# Altium schematic symbol library 453-00117_Sona IF573_SCH_Symbol_Altium.SchLib: 1 symbol
Pins are listed as number, name and electrical type; pins without a type are passive.

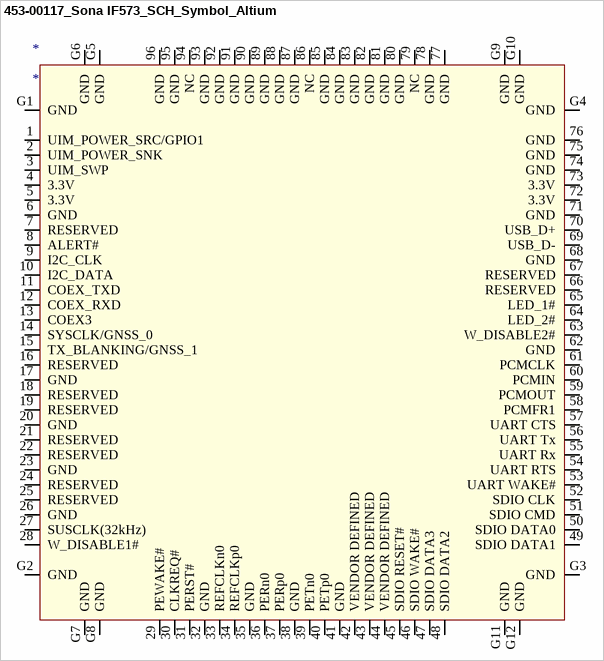
[diagram p0: symbol 453-00117_Sona IF573_SCH_Symbol_Altium]

## 453-00117_Sona IF573_SCH_Symbol_Altium
designator *
pins: 1 UIM_POWER_SRC/GPIO1, 2 UIM_POWER_SNK, 3 UIM_SWP, 4 3.3V, 5 3.3V, 6 GND, 7 RESERVED, 8 ALERT#, 9 I2C_CLK, 10 I2C_DATA, 11 COEX_TXD, 12 COEX_RXD, 13 COEX3, 14 SYSCLK/GNSS_0, 15 TX_BLANKING/GNSS_1, 16 RESERVED, 17 GND, 18 RESERVED, 19 RESERVED, 20 GND, 21 RESERVED, 22 RESERVED, 23 GND, 24 RESERVED, 25 RESERVED, 26 GND, 27 SUSCLK(32kHz), 28 W_DISABLE1#, 29 PEWAKE#, 30 CLKREQ#, 31 PERST#, 32 GND, 33 REFCLKn0, 34 REFCLKp0, 35 GND, 36 PERn0, 37 PERp0, 38 GND, 39 PETn0, 40 PETp0, 41 GND, 42 VENDOR DEFINED, 43 VENDOR DEFINED, 44 VENDOR DEFINED, 45 SDIO RESET#, 46 SDIO WAKE#, 47 SDIO DATA3, 48 SDIO DATA2, 49 SDIO DATA1, 50 SDIO DATA0, 51 SDIO CMD, 52 SDIO CLK, 53 UART WAKE#, 54 UART RTS, 55 UART Rx, 56 UART Tx, 57 UART CTS, 58 PCMFR1, 59 PCMOUT, 60 PCMIN, 61 PCMCLK, 62 GND, 63 W_DISABLE2#, 64 LED_2#, 65 LED_1#, 66 RESERVED, 67 RESERVED, 68 GND, 69 USB_D-, 70 USB_D+, 71 GND, 72 3.3V, 73 3.3V, 74 GND, 75 GND, 76 GND, 77 GND, 78 GND, 79 NC, 80 GND, 81 GND, 82 GND, 83 GND, 84 GND, 85 GND, 86 NC, 87 GND, 88 GND, 89 GND, 90 GND, 91 GND, 92 GND, 93 GND, 94 NC, 95 GND, 96 GND, G1 GND, G2 GND, G3 GND, G4 GND, G5 GND, G6 GND, G7 GND, G8 GND, G9 GND, G10 GND, G11 GND, G12 GND